# Altium footprint library IDC_Connector.PcbLib: 4 footprints
Each footprint in its own frame and in the unit in brackets; x right, y up, seen from the top. Pads: shape width x height; smd on the part's side, far side on the other; paste and mask are expansions set on the pad; w line width, h text height; cw(c..) or ccw(c..) is an arc to the next point about the centre after c.
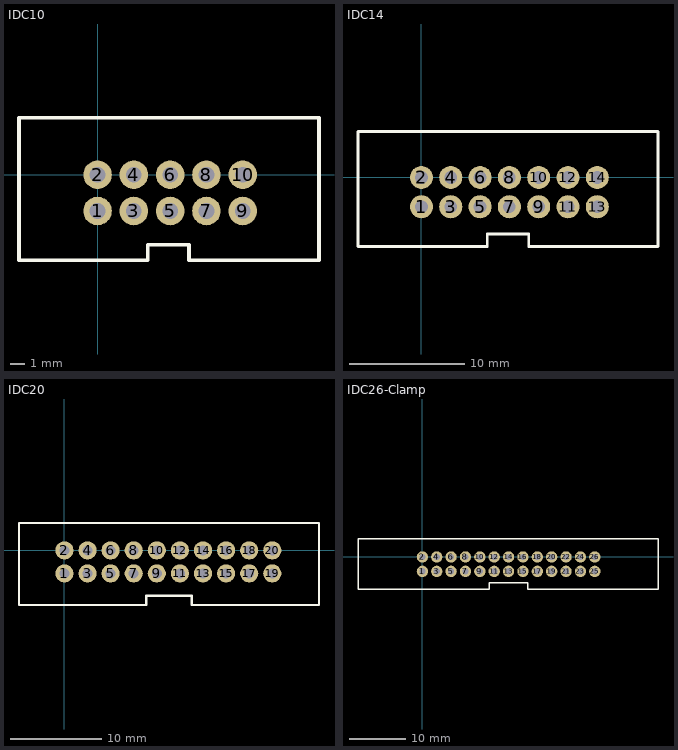
[diagram p0: the footprints below, top view; thin cyan lines are the x and y axes]

## IDC10 [mm]
pads (10):
  round 2 hole 1.1: 1(0,-2.54) 2(0,0) 3(2.54,-2.54) 4(2.54,0) 5(5.08,-2.54) 6(5.08,0) 7(7.62,-2.54) 8(7.62,0) 9(10.16,-2.54) 10(10.16,0)
Top Overlay:
  lines w0.254: -5.5,-6 3.5,-6 3.5,-4.9 6.4,-4.9 6.4,-6 15.5,-6 15.5,4 -5.5,4 -5.5,-6
3D body: height 9.45, standoff -3.25, extent -5.1,-5.7 15.3,3.65

## IDC14 [mm]
pads (14):
  round 2 hole 1.1: 1(0,-2.54) 2(0,0) 3(2.54,-2.54) 4(2.54,0) 5(5.08,-2.54) 6(5.08,0) 7(7.62,-2.54) 8(7.62,0) 9(10.16,-2.54) 10(10.16,0) 11(12.7,-2.54) 12(12.7,0) 13(15.24,-2.54) 14(15.24,0)
Top Overlay:
  lines w0.254: -5.5,-6 -5.5,4 20.5,4 20.5,-6 9.3,-6 9.3,-4.9 5.7,-4.9 5.7,-6 -5.5,-6
3D body: height 9.35, standoff -3.35, extent -5.1,-5.675 20.3,3.675

## IDC20 [mm]
pads (20):
  round 2 hole 1.1: 1(0,-2.54) 2(0,0) 3(2.54,-2.54) 4(2.54,0) 5(5.08,-2.54) 6(5.08,0) 7(7.62,-2.54) 8(7.62,0) 9(10.16,-2.54) 10(10.16,0) 11(12.7,-2.54) 12(12.7,0) 13(15.24,-2.54) 14(15.24,0) 15(17.78,-2.54) 16(17.78,0) 17(20.32,-2.54) 18(20.32,0) 19(22.86,-2.54) 20(22.86,0)
Top Overlay:
  lines w0.254: -5,-6 -5,3 28,3 28,-6 14,-6 14,-5 9,-5 9,-6 -5,-6
3D body: height 8.75, standoff -3.1, extent -5.11,-5.7 27.91,3.4

## IDC26-Clamp [mm]
pads (26):
  round 2 hole 1.1: 1(0,-2.54) 2(0,0) 3(2.54,-2.54) 4(2.54,0) 5(5.08,-2.54) 6(5.08,0) 7(7.62,-2.54) 8(7.62,0) 9(10.16,-2.54) 10(10.16,0) 11(12.7,-2.54) 12(12.7,0) 13(15.24,-2.54) 14(15.24,0) 15(17.78,-2.54) 16(17.78,0) 17(20.32,-2.54) 18(20.32,0) 19(22.86,-2.54) 20(22.86,0) 21(25.4,-2.54) 22(25.4,0) 23(27.94,-2.54) 24(27.94,0) 25(30.48,-2.54) 26(30.48,0)
Top Overlay:
  lines w0.254: -11.379,-5.74 11.862,-5.74 11.862,-4.547 18.669,-4.547 18.669,-5.69 41.656,-5.69 41.656,3.251 -11.379,3.251 -11.379,-5.74
3D body: height 25.89, standoff -0.61, extent -11.071,-5.52 41.529,2.98